# Altium footprint library FB0805.PcbLib: 1 footprints
Each footprint in its own frame and in the unit in brackets; x right, y up, seen from the top. Pads: shape width x height; smd on the part's side, far side on the other; paste and mask are expansions set on the pad; w line width, h text height; cw(c..) or ccw(c..) is an arc to the next point about the centre after c.
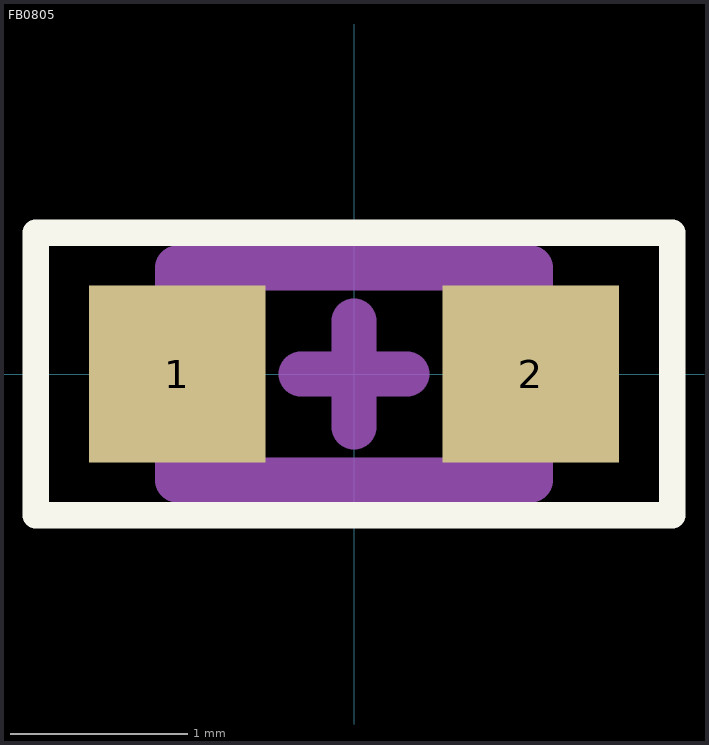
[diagram p0: the footprint, top view; thin cyan lines are the x and y axes]

## FB0805 [mm]
height 1.2
pads (2):
  rect 1x1 smd mask+0.06: 1(-1,0) 2(1,0)
Top Overlay:
  lines w0.15: -1.8,-0.8 -1.8,0.8 1.8,0.8 1.8,-0.8 -1.8,-0.8
Top Designator:
  text ".Designator" at -7.618,-0.508 h1.52
3D Body:
  lines w0.254: -1,-0.6 1,-0.6 1,0.6 -1,0.6 -1,-0.6
Center Cross:
  lines w0.254: -0.3,0 0,0 ; 0,-0.3 0,0 ; 0,0.3 0,0 ; 0.3,0 0,0
3D body "FB0805.stp": height 0.9, standoff 0, extent -1,-0.6 1,0.6